# Altium footprint library LC-DO-201AD.PcbLib: 3 footprints
Each footprint in its own frame and in the unit in brackets; x right, y up, seen from the top. Pads: shape width x height; smd on the part's side, far side on the other; paste and mask are expansions set on the pad; w line width, h text height; cw(c..) or ccw(c..) is an arc to the next point about the centre after c.
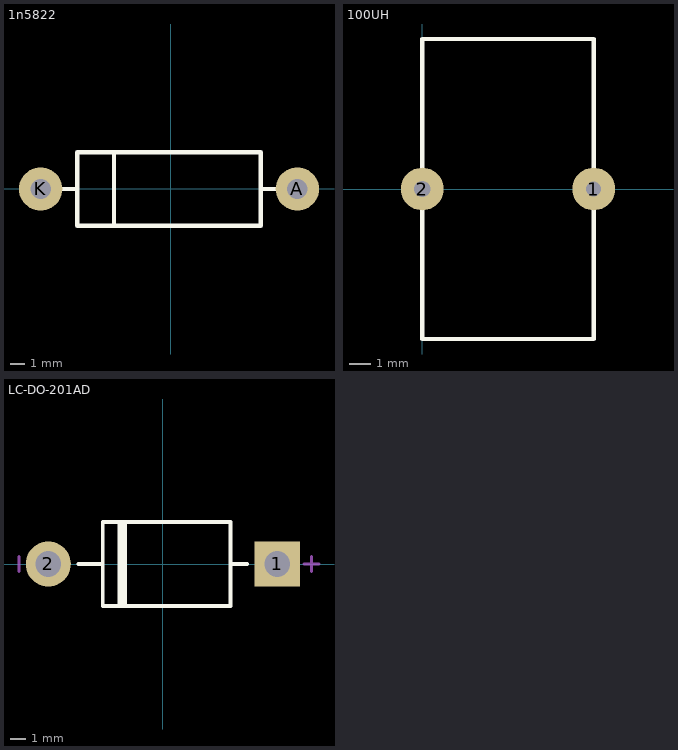
[diagram p0: the footprints below, top view; thin cyan lines are the x and y axes]

## 1n5822 [mm]
pads (2):
  round 3 hole 1.4: A(8.775,-0.025) K(-9.005,-0.025)
Top Overlay:
  lines w0.305: -7.481,-0.025 -6.465,-0.025 ; -3.925,-2.565 -3.925,2.515 ; 6.235,-0.025 7.251,-0.025 ; -6.465,-2.565 6.235,-2.565 6.235,2.515 -6.465,2.515 -6.465,-2.565

## 100UH [mm]
pads (2):
  round 2 hole 0.7: 1(8,0)
  round 2 hole 0.762: 2(0,0)
Top Overlay:
  lines w0.2: 0,-7 8,-7 8,7 0,7 0,-7

## LC-DO-201AD [mm]
pads (2):
  rect 3x3 hole 1.7: 1(7.62,0)
  round 3 hole 1.7: 2(-7.62,0)
Top Overlay:
  lines w0.254: -5.6,0 -4,0 ; -2.9,-2.8 -2.9,2.8 ; -2.7,-2.8 -2.7,2.8 ; -2.5,-2.8 -2.5,2.8 ; 4.5,0 5.6,0 ; -4,-2.8 4.5,-2.8 4.5,2.8 -4,2.8 -4,-2.8
Mechanical 15:
  lines w0.203: -9.57,-0.5 -9.57,0.5 ; 9.4,0 10.4,0 ; 9.9,-0.5 9.9,0.5
3D body: height 6.6, standoff -5, extent -8.28,-2.8 8.28,2.8